# Altium schematic symbol library SN75451.SchLib: 1 symbol
Pins are listed as number, name and electrical type; pins without a type are passive.

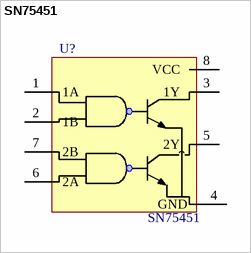
[diagram p0: symbol SN75451]

## SN75451
designator U?
SN75451 Dual Peripheral drivers
footprint SOP-8 (SOP, 8-Leads, Body 4.90x3.90mm, Pitch 1.27mm, IPC High Density)
pins: 1 1A, 2 1B, 3 1Y, 4 GND, 5 2Y, 6 2A, 7 2B, 8 VCC